# EAGLE library part PCH_SSM6J808R (library Chip MOSFET)
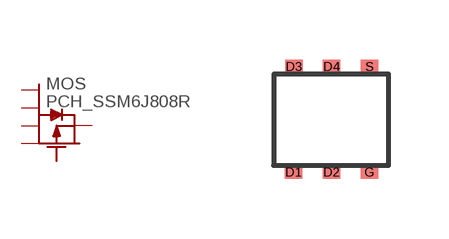
[diagram p0: symbol with the pads of SSM6J808R; footprint SSM6J808R]

Designator prefix MOS

## PCH_SSM6J808R  [SSM6J808R]
D1  D1
D2  D2
D3  D3
D4  D4
G  G
S  S

## Footprint SSM6J808R (pad centres in mm)
smd 0.44 x 0.33: D1 0,0; D2 0.95,0; D3 0.01,2.64; D4 0.95,2.64; G 1.9,0; S 1.9,2.64